# Altium footprint library WE-OLSTM.PcbLib: 28 footprints (part 1 of 2)
Each footprint in its own frame and in the unit in brackets; x right, y up, seen from the top. Pads: shape width x height; smd on the part's side, far side on the other; paste and mask are expansions set on the pad; w line width, h text height; cw(c..) or ccw(c..) is an arc to the next point about the centre after c.
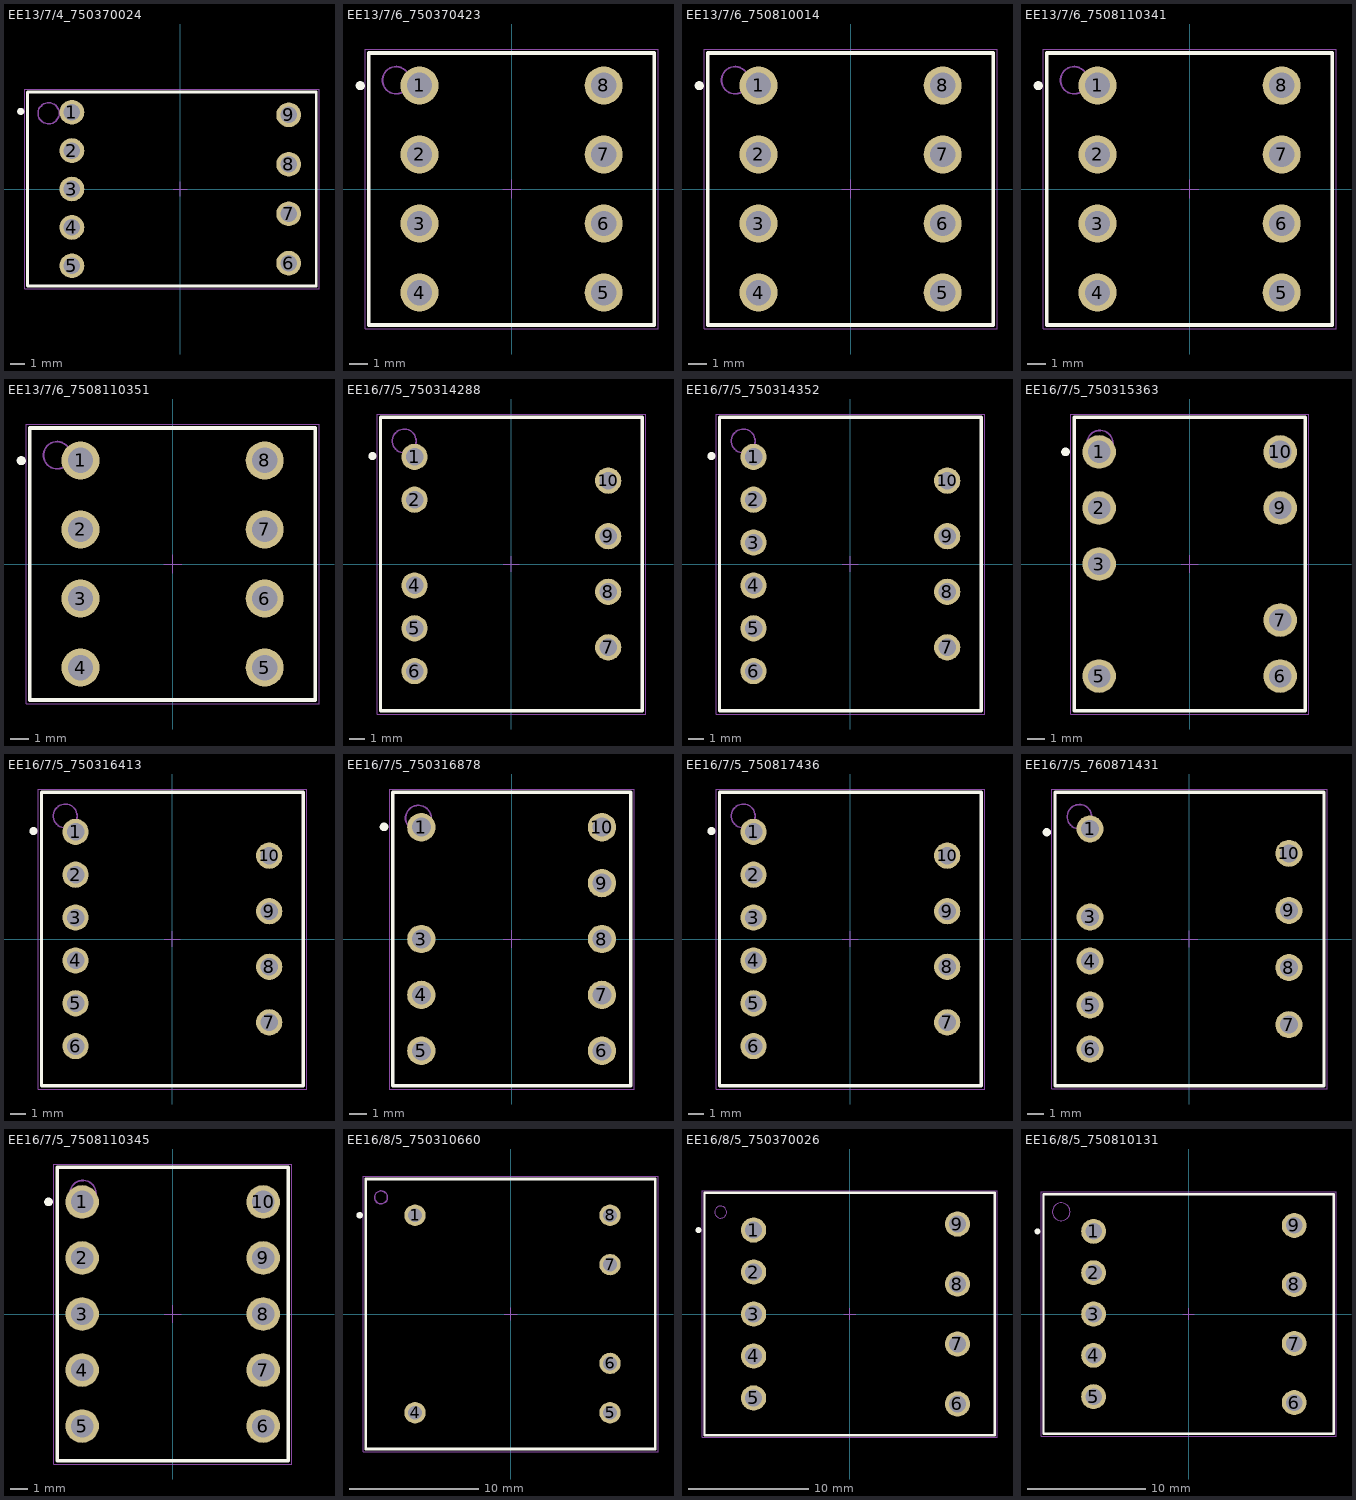
[diagram p0: the footprints below, top view; thin cyan lines are the x and y axes]

## EE13/7/4_750370024 [mm] "Offline Flyback Transformer, THT, body 20.45 x 13.72 mm"
height 10.8
pads (9):
  round 1.75 hole 1.17: 1(-7.675,5.44) 2(-7.675,2.72) 3(-7.675,0) 4(-7.675,-2.72) 5(-7.675,-5.44) 6(7.675,-5.25) 7(7.675,-1.75) 8(7.675,1.75) 9(7.675,5.25)
Top Overlay:
  circle w0.25: c-11.3,5.5 r0.125
  lines w0.2: -10.825,-6.86 9.625,-6.86 9.625,6.86 -10.825,6.86 -10.825,-6.86
Top Component Outline:
  circle w0.1: c-9.325,5.36 r0.75
  lines w0.1: -10.825,-6.86 9.625,-6.86 9.625,6.86 -10.825,6.86 -10.825,-6.86
Top Courtyard:
  lines w0.05: -11.025,-7.06 9.825,-7.06 9.825,7.06 -11.025,7.06 -11.025,-7.06
Top Component Center:
  lines w0.05: -0.5,0 0.5,0 ; 0,-0.5 0,0.5
Top Designator (Mech19):
  text ".Designator" at -7.498,-0.5 h1.5
3D body "070-5662 (rev1).STEP": height 9.45, standoff -2.55, extent -10.35,-6.71 9.15,6.71

## EE13/7/6_750370423 [mm] "Offline Flyback Transformer, THT, body 15.75 x 15.00 mm"
height 18.5
pads (8):
  round 2.1 hole 1.4: 1(-5.08,5.715) 2(-5.08,1.905) 3(-5.08,-1.905) 4(-5.08,-5.715) 5(5.08,-5.715) 6(5.08,-1.905) 7(5.08,1.905) 8(5.08,5.715)
Top Overlay:
  circle w0.25: c-8.35,5.7 r0.125
  lines w0.2: -7.875,-7.5 -7.875,7.5 7.875,7.5 7.875,-7.5 -7.875,-7.5
Top Component Outline:
  circle w0.1: c-6.375,6 r0.75
  lines w0.1: -7.875,-7.5 -7.875,7.5 7.875,7.5 7.875,-7.5 -7.875,-7.5
Top Courtyard:
  lines w0.05: -8.075,-7.7 -8.075,7.7 8.075,7.7 8.075,-7.7 -8.075,-7.7
Top Component Center:
  lines w0.05: -0.5,0 0.5,0 ; 0,-0.5 0,0.5
Top Designator (Mech19):
  text ".Designator" at -7.498,-0.5 h1.5
3D body "070-5449 (rev1).STEP": height 17.56, standoff -3.46, extent -7.416,-7.165 7.493,7.085

## EE13/7/6_750810014 [mm] "Offline Flyback Transformer, THT, body 15.75 x 15.00 mm"
height 18.5
pads (8):
  round 2.1 hole 1.4: 1(-5.08,5.715) 2(-5.08,1.905) 3(-5.08,-1.905) 4(-5.08,-5.715) 5(5.08,-5.715) 6(5.08,-1.905) 7(5.08,1.905) 8(5.08,5.715)
Top Overlay:
  circle w0.25: c-8.35,5.7 r0.125
  lines w0.2: -7.875,-7.5 7.875,-7.5 7.875,7.5 -7.875,7.5 -7.875,-7.5
Top Component Outline:
  circle w0.1: c-6.375,6 r0.75
  lines w0.1: -7.875,-7.5 7.875,-7.5 7.875,7.5 -7.875,7.5 -7.875,-7.5
Top Courtyard:
  lines w0.05: -8.075,-7.7 8.075,-7.7 8.075,7.7 -8.075,7.7 -8.075,-7.7
Top Component Center:
  lines w0.05: -0.5,0 0.5,0 ; 0,-0.5 0,0.5
Top Designator (Mech19):
  text ".Designator" at -7.498,-0.5 h1.5
3D body "070-5449 (rev1).STEP": height 17.56, standoff -3.46, extent -7.416,-7.165 7.493,7.085

## EE13/7/6_7508110341 [mm] "Offline Flyback Transformer, THT, body 15.75 x 15.00 mm"
height 18.5
pads (8):
  round 2.1 hole 1.4: 1(-5.08,5.715) 2(-5.08,1.905) 3(-5.08,-1.905) 4(-5.08,-5.715) 5(5.08,-5.715) 6(5.08,-1.905) 7(5.08,1.905) 8(5.08,5.715)
Top Overlay:
  circle w0.25: c-8.35,5.7 r0.125
  lines w0.2: -7.875,-7.5 7.875,-7.5 7.875,7.5 -7.875,7.5 -7.875,-7.5
Top Component Outline:
  circle w0.1: c-6.375,6 r0.75
  lines w0.1: -7.875,-7.5 7.875,-7.5 7.875,7.5 -7.875,7.5 -7.875,-7.5
Top Courtyard:
  lines w0.05: -8.075,-7.7 8.075,-7.7 8.075,7.7 -8.075,7.7 -8.075,-7.7
Top Component Center:
  lines w0.05: -0.5,0 0.5,0 ; 0,-0.5 0,0.5
Top Designator (Mech19):
  text ".Designator" at -7.498,-0.5 h1.5
3D body "070-5449 (rev1).STEP": height 17.56, standoff -3.46, extent -7.416,-7.165 7.493,7.085

## EE13/7/6_7508110351 [mm] "Offline Flyback Transformer, THT, body 15.75 x 15.00 mm"
height 18.5
pads (8):
  round 2.1 hole 1.4: 1(-5.08,5.715) 2(-5.08,1.905) 3(-5.08,-1.905) 4(-5.08,-5.715) 5(5.08,-5.715) 6(5.08,-1.905) 7(5.08,1.905) 8(5.08,5.715)
Top Overlay:
  circle w0.25: c-8.35,5.7 r0.125
  lines w0.2: -7.875,-7.5 7.875,-7.5 7.875,7.5 -7.875,7.5 -7.875,-7.5
Top Component Outline:
  circle w0.1: c-6.375,6 r0.75
  lines w0.1: -7.875,-7.5 7.875,-7.5 7.875,7.5 -7.875,7.5 -7.875,-7.5
Top Courtyard:
  lines w0.05: -8.075,-7.7 8.075,-7.7 8.075,7.7 -8.075,7.7 -8.075,-7.7
Top Component Center:
  lines w0.05: -0.5,0 0.5,0 ; 0,-0.5 0,0.5
Top Designator (Mech19):
  text ".Designator" at -7.498,-0.5 h1.5
3D body "070-5449 (rev1).STEP": height 17.56, standoff -3.46, extent -7.416,-7.165 7.493,7.085

## EE16/7/5_750314288 [mm] "Offline Flyback Transformer, THT, body 16.50 x 18.50 mm"
height 18.8
pads (9):
  round 1.65 hole 1.1: 1(-6.1,6.75) 2(-6.1,4.05) 4(-6.1,-1.35) 5(-6.1,-4.05) 6(-6.1,-6.75) 7(6.1,-5.25) 8(6.1,-1.75) 9(6.1,1.75) 10(6.1,5.25)
Top Overlay:
  circle w0.25: c-8.75,6.8 r0.125
  lines w0.2: -8.25,-9.25 8.25,-9.25 8.25,9.25 -8.25,9.25 -8.25,-9.25
Top Component Outline:
  circle w0.1: c-6.75,7.75 r0.75
  lines w0.1: -8.25,-9.25 8.25,-9.25 8.25,9.25 -8.25,9.25 -8.25,-9.25
Top Courtyard:
  lines w0.05: -8.45,-9.45 8.45,-9.45 8.45,9.45 -8.45,9.45 -8.45,-9.45
Top Component Center:
  lines w0.05: -0.5,0 0.5,0 ; 0,-0.5 0,0.5
Top Designator (Mech19):
  text ".Designator" at -7.498,-0.5 h1.5
3D body "070-5278_MP3 (rev1).STEP": height 17.78, standoff -3.95, extent -7.69,-8.72 7.79,8.9

## EE16/7/5_750314352 [mm] "Offline Flyback Transformer, THT, body 16.50 x 18.50 mm"
height 18.8
pads (10):
  round 1.65 hole 1.1: 1(-6.1,6.75) 2(-6.1,4.05) 3(-6.1,1.35) 4(-6.1,-1.35) 5(-6.1,-4.05) 6(-6.1,-6.75) 7(6.1,-5.25) 8(6.1,-1.75) 9(6.1,1.75) 10(6.1,5.25)
Top Overlay:
  circle w0.25: c-8.75,6.8 r0.125
  lines w0.2: -8.25,-9.25 8.25,-9.25 8.25,9.25 -8.25,9.25 -8.25,-9.25
Top Component Outline:
  circle w0.1: c-6.75,7.75 r0.75
  lines w0.1: -8.25,-9.25 8.25,-9.25 8.25,9.25 -8.25,9.25 -8.25,-9.25
Top Courtyard:
  lines w0.05: -8.45,-9.45 8.45,-9.45 8.45,9.45 -8.45,9.45 -8.45,-9.45
Top Component Center:
  lines w0.05: -0.5,0 0.5,0 ; 0,-0.5 0,0.5
Top Designator (Mech19):
  text ".Designator" at -7.498,-0.5 h1.5
3D body "070-5278 (rev1).STEP": height 17.78, standoff -3.95, extent -7.69,-8.72 7.79,8.9

## EE16/7/5_750315363 [mm] "Offline Flyback Transformer, THT, body 13.40 x 17.00 mm"
height 21.5
pads (8):
  round 1.95 hole 1.3: 1(-5.25,6.5) 2(-5.25,3.25) 3(-5.25,0) 5(-5.25,-6.5) 6(5.25,-6.5) 7(5.25,-3.25) 9(5.25,3.25) 10(5.25,6.5)
Top Overlay:
  circle w0.25: c-7.2,6.5 r0.125
  lines w0.2: -6.7,-8.5 6.7,-8.5 6.7,8.5 -6.7,8.5 -6.7,-8.5
Top Component Outline:
  circle w0.1: c-5.2,7 r0.75
  lines w0.1: -6.7,-8.5 6.7,-8.5 6.7,8.5 -6.7,8.5 -6.7,-8.5
Top Courtyard:
  lines w0.05: -6.9,-8.7 6.9,-8.7 6.9,8.7 -6.9,8.7 -6.9,-8.7
Top Component Center:
  lines w0.05: -0.5,0 0.5,0 ; 0,-0.5 0,0.5
Top Designator (Mech19):
  text ".Designator" at -7.498,-0.5 h1.5
3D body "070-5836_MP4-8 (rev1).STEP": height 21.92, standoff -3.94, extent -6.498,-8.359 6.502,8.361

## EE16/7/5_750316413 [mm] "Offline Flyback Transformer, THT, body 16.50 x 18.50 mm"
height 18.8
pads (10):
  round 1.65 hole 1.1: 1(-6.1,6.75) 2(-6.1,4.05) 3(-6.1,1.35) 4(-6.1,-1.35) 5(-6.1,-4.05) 6(-6.1,-6.75) 7(6.1,-5.25) 8(6.1,-1.75) 9(6.1,1.75) 10(6.1,5.25)
Top Overlay:
  circle w0.25: c-8.75,6.8 r0.125
  lines w0.2: -8.25,-9.25 8.25,-9.25 8.25,9.25 -8.25,9.25 -8.25,-9.25
Top Component Outline:
  circle w0.1: c-6.75,7.75 r0.75
  lines w0.1: -8.25,-9.25 8.25,-9.25 8.25,9.25 -8.25,9.25 -8.25,-9.25
Top Courtyard:
  lines w0.05: -8.45,-9.45 8.45,-9.45 8.45,9.45 -8.45,9.45 -8.45,-9.45
Top Component Center:
  lines w0.05: -0.5,0 0.5,0 ; 0,-0.5 0,0.5
Top Designator (Mech19):
  text ".Designator" at -7.498,-0.5 h1.5
3D body "070-5278 (rev1).STEP": height 17.78, standoff -3.95, extent -7.69,-8.72 7.79,8.9

## EE16/7/5_750316878 [mm] "Offline Flyback Transformer, THT, body 13.84 x 17.04 mm"
height 22.55
pads (9):
  round 1.65 hole 1.1: 1(-5.25,6.5) 3(-5.25,0) 4(-5.25,-3.25) 5(-5.25,-6.5) 6(5.25,-6.5) 7(5.25,-3.25) 8(5.25,0) 9(5.25,3.25) 10(5.25,6.5)
Top Overlay:
  circle w0.25: c-7.42,6.52 r0.125
  lines w0.2: -6.92,-8.52 6.92,-8.52 6.92,8.52 -6.92,8.52 -6.92,-8.52
Top Component Outline:
  circle w0.1: c-5.42,7.02 r0.75
  lines w0.1: -6.92,-8.52 -6.92,8.52 6.92,8.52 6.92,-8.52 -6.92,-8.52
Top Courtyard:
  lines w0.05: -7.12,-8.72 -7.12,8.72 7.12,8.72 7.12,-8.72 -7.12,-8.72
Top Component Center:
  lines w0.05: -0.5,0 0.5,0 ; 0,-0.5 0,0.5
Top Designator (Mech19):
  text ".Designator" at -7.498,-0.5 h1.5
3D body "070-5836_MP2 (rev1).STEP": height 21.92, standoff -3.94, extent -6.498,-8.359 6.502,8.361

## EE16/7/5_750817436 [mm] "Offline Flyback Transformer, THT, body 16.50 x 18.50 mm"
height 18.8
pads (10):
  round 1.65 hole 1.1: 1(-6.1,6.75) 2(-6.1,4.05) 3(-6.1,1.35) 4(-6.1,-1.35) 5(-6.1,-4.05) 6(-6.1,-6.75) 7(6.1,-5.25) 8(6.1,-1.75) 9(6.1,1.75) 10(6.1,5.25)
Top Overlay:
  circle w0.25: c-8.75,6.8 r0.125
  lines w0.2: -8.25,-9.25 8.25,-9.25 8.25,9.25 -8.25,9.25 -8.25,-9.25
Top Component Outline:
  circle w0.1: c-6.75,7.75 r0.75
  lines w0.1: -8.25,-9.25 8.25,-9.25 8.25,9.25 -8.25,9.25 -8.25,-9.25
Top Courtyard:
  lines w0.05: -8.45,-9.45 8.45,-9.45 8.45,9.45 -8.45,9.45 -8.45,-9.45
Top Component Center:
  lines w0.05: -0.5,0 0.5,0 ; 0,-0.5 0,0.5
Top Designator (Mech19):
  text ".Designator" at -7.498,-0.5 h1.5
3D body "070-5278 (rev1).STEP": height 17.78, standoff -3.95, extent -7.69,-8.72 7.79,8.9

## EE16/7/5_760871431 [mm] "Offline Flyback Transformer, THT, body 16.50 x 18.50 mm"
height 18
pads (9):
  round 1.65 hole 1.1: 1(-6.1,6.75) 3(-6.1,1.35) 4(-6.1,-1.35) 5(-6.1,-4.05) 6(-6.1,-6.75) 7(6.1,-5.25) 8(6.1,-1.75) 9(6.1,1.75) 10(6.1,5.25)
Top Overlay:
  circle w0.25: c-8.75,6.55 r0.125
  lines w0.2: -8.25,-9 8.25,-9 8.25,9 -8.25,9 -8.25,-9
Top Component Outline:
  circle w0.1: c-6.75,7.5 r0.75
  lines w0.1: -8.25,-9 8.25,-9 8.25,9 -8.25,9 -8.25,-9
Top Courtyard:
  lines w0.05: -8.45,-9.2 8.45,-9.2 8.45,9.2 -8.45,9.2 -8.45,-9.2
Top Component Center:
  lines w0.05: -0.5,0 0.5,0 ; 0,-0.5 0,0.5
Top Designator (Mech19):
  text ".Designator" at -7.498,-0.5 h1.5
3D body "070-5278_MP2 (rev1) (2).STEP": height 17.78, standoff -3.95, extent -7.69,-8.72 7.79,8.9

## EE16/7/5_7508110345 [mm] "Offline Flyback Transformer, THT, body 13.40 x 17.00 mm"
height 21.5
pads (10):
  round 1.95 hole 1.3: 1(-5.25,6.5) 2(-5.25,3.25) 3(-5.25,0) 4(-5.25,-3.25) 5(-5.25,-6.5) 6(5.25,-6.5) 7(5.25,-3.25) 8(5.25,0) 9(5.25,3.25) 10(5.25,6.5)
Top Overlay:
  circle w0.25: c-7.2,6.5 r0.125
  lines w0.2: -6.7,-8.5 -6.7,8.5 6.7,8.5 6.7,-8.5 -6.7,-8.5
Top Component Outline:
  circle w0.1: c-5.2,7 r0.75
  lines w0.1: -6.7,-8.5 -6.7,8.5 6.7,8.5 6.7,-8.5 -6.7,-8.5
Top Courtyard:
  lines w0.05: -6.9,-8.7 -6.9,8.7 6.9,8.7 6.9,-8.7 -6.9,-8.7
Top Component Center:
  lines w0.05: -0.5,0 0.5,0 ; 0,-0.5 0,0.5
Top Designator (Mech19):
  text ".Designator" at -7.498,-0.5 h1.5
3D body "Download_STP_070-5836_rev1.STEP": height 22.7, standoff -3.84, extent -6.92,-8.72 6.92,8.32

## EE16/8/5_750310660 [mm] "Offline Flyback Transformer, THT, body 22.35 x 20.83 mm"
height 17.53
pads (6):
  round 1.65 hole 1.07: 1(-7.375,7.62) 4(-7.375,-7.62) 5(7.675,-7.62) 6(7.675,-3.81) 7(7.675,3.81) 8(7.675,7.62)
Top Overlay:
  circle w0.25: c-11.65,7.62 r0.125
  lines w0.2: -11.175,-10.415 -11.175,10.415 11.175,10.415 11.175,-10.415 -11.175,-10.415
Top Component Outline:
  circle w0.1: c-10,9 r0.5
  lines w0.1: -11.175,-10.415 -11.175,10.415 11.175,10.415 11.175,-10.415 -11.175,-10.415
Top Courtyard:
  lines w0.05: -11.375,-10.615 11.375,-10.615 11.375,10.615 -11.375,10.615 -11.375,-10.615
Top Component Center:
  lines w0.05: -0.5,0 0.5,0 ; 0,-0.5 0,0.5
Top Designator (Mech19):
  text ".Designator" at -7.498,-0.5 h1.5
3D body "070-5366_MP2-3 (rev1).STEP": height 17.09, standoff -4.35, extent -10.925,-10.18 10.925,10.18

## EE16/8/5_750370026 [mm] "Offline Flyback Transformer, THT, body 24.20 x 20.20 mm"
height 15.5
pads (9):
  round 2.1 hole 1.42: 1(-8,7) 2(-8,3.5) 3(-8,0) 4(-8,-3.5) 5(-8,-7) 6(9,-7.5) 7(9,-2.5) 8(9,2.5) 9(9,7.5)
Top Overlay:
  circle w0.25: c-12.6,7 r0.125
  lines w0.2: -12.1,-10.1 -12.1,10.1 12.1,10.1 12.1,-10.1 -12.1,-10.1
Top Component Outline:
  circle w0.1: c-10.75,8.5 r0.5
  lines w0.1: -12.1,-10.1 -12.1,10.1 12.1,10.1 12.1,-10.1 -12.1,-10.1
Top Courtyard:
  lines w0.05: -12.3,-10.3 -12.3,10.3 12.3,10.3 12.3,-10.3 -12.3,-10.3
Top Component Center:
  lines w0.05: -0.5,0 0.5,0 ; 0,-0.5 0,0.5
Top Designator (Mech19):
  text ".Designator" at -7.498,-0.5 h1.5
3D body "070-5280 (rev1).STEP": height 14.95, standoff -3.45, extent -11.905,-9.9 11.905,9.9

## EE16/8/5_750810131 [mm] "Offline Flyback Transformer, THT, body 24.38 x 20.32 mm"
height 16
pads (9):
  round 2.1 hole 1.4: 1(-8.05,7) 2(-8.05,3.5) 3(-8.05,0) 4(-8.05,-3.5) 5(-8.05,-7) 6(8.95,-7.5) 7(8.95,-2.5) 8(8.95,2.5) 9(8.95,7.5)
Top Overlay:
  circle w0.25: c-12.8,7 r0.125
  lines w0.2: -12.29,-10.16 -12.29,10.16 12.29,10.16 12.29,-10.16 -12.29,-10.16
Top Component Outline:
  circle w0.1: c-10.79,8.66 r0.75
  lines w0.1: -12.29,-10.16 12.29,-10.16 12.29,10.16 -12.29,10.16 -12.29,-10.16
Top Courtyard:
  lines w0.05: -12.49,-10.36 12.49,-10.36 12.49,10.36 -12.49,10.36 -12.49,-10.36
Top Component Center:
  lines w0.05: -0.5,0 0.5,0 ; 0,-0.5 0,0.5
Top Designator (Mech19):
  text ".Designator" at -7.498,-0.5 h1.5
3D body "070-5280 (rev1).STEP": height 14.95, standoff -3.45, extent -11.905,-9.9 11.905,9.9